# EAGLE library part XBEE_WIFI (library jkf)
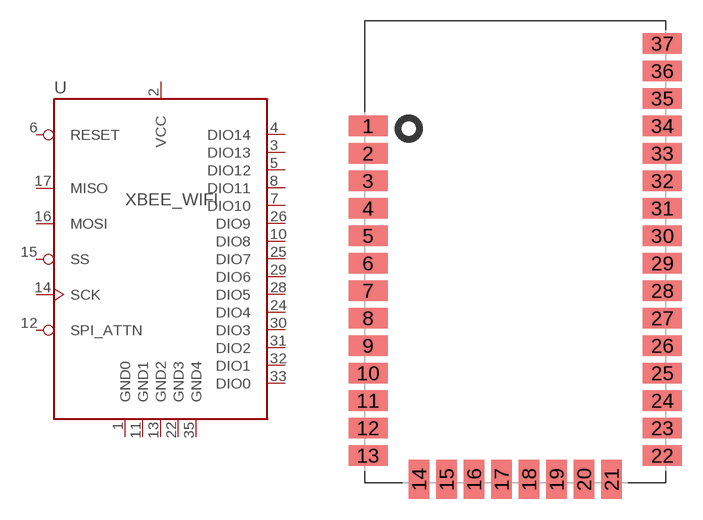
[diagram p7: symbol with the pads of XBEE_WIFI; footprint XBEE_WIFI]

Designator prefix U

## XBEE_WIFI (DIGIKEY#: 602-1369-ND; MANF: Digi International; MANF#: XB2B-WFPS-001)  [XBEE_WIFI]
1  GND0  pwr
2  VCC  pwr
3  DIO13
4  DIO14
5  DIO12
6  RESET  in
7  DIO10
8  DIO11
10  DIO8
11  GND1  pwr
12  SPI_ATTN  out
13  GND2  pwr
14  SCK
15  SS
16  MOSI
17  MISO
22  GND3  pwr
24  DIO4
25  DIO7
26  DIO9
28  DIO5
29  DIO6
30  DIO3
31  DIO2
32  DIO1
33  DIO0
35  GND4  pwr

## Footprint XBEE_WIFI (pad centres in mm)
smd 2.845 x 1.524: 1 -10.744,9.195; 2 -10.744,7.188; 3 -10.744,5.182; 4 -10.744,3.175; 5 -10.744,1.168; 6 -10.744,-0.838; 7 -10.744,-2.845; 8 -10.744,-4.851; 9 -10.744,-6.858; 10 -10.744,-8.865; 11 -10.744,-10.871; 12 -10.744,-12.878; 13 -10.744,-14.884; 22 10.744,-14.884; 23 10.744,-12.878; 24 10.744,-10.871; 25 10.744,-8.865; 26 10.744,-6.858; 27 10.744,-4.851; 28 10.744,-2.845; 29 10.744,-0.838; 30 10.744,1.168; 31 10.744,3.175; 32 10.744,5.182; 33 10.744,7.188; 34 10.744,9.195; 35 10.744,11.201; 36 10.744,13.208; 37 10.744,15.215
smd 1.524 x 2.845: 14 -7.023,-16.637; 15 -5.016,-16.637; 16 -3.01,-16.637; 17 -1.003,-16.637; 18 1.003,-16.637; 19 3.01,-16.637; 20 5.016,-16.637; 21 7.023,-16.637